# Altium footprint library Vectra_bluetooth.PcbLib: 1 footprints
Each footprint in its own frame and in the unit in brackets; x right, y up, seen from the top. Pads: shape width x height; smd on the part's side, far side on the other; paste and mask are expansions set on the pad; w line width, h text height; cw(c..) or ccw(c..) is an arc to the next point about the centre after c.
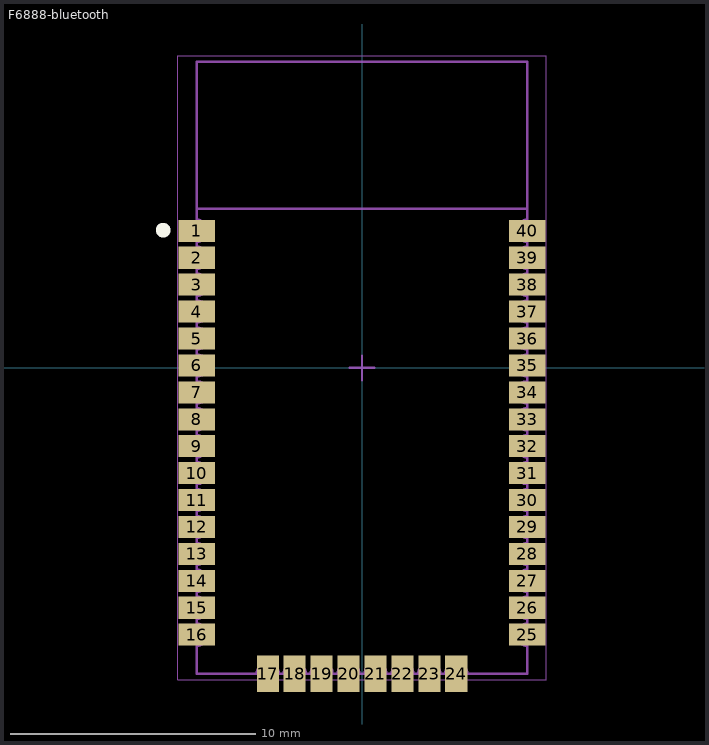
[diagram p0: the footprint, top view; thin cyan lines are the x and y axes]

## F6888-bluetooth [mm] "Chip Array, Concave, 32-Leads, Pitch 1,10mm,  Body 25,00x13,50mm,  IPC Medium Density"
height 2
pads (40):
  rect 1.5x0.9 smd: 1(-6.75,5.6) 2(-6.75,4.5) 3(-6.75,3.4) 4(-6.75,2.3) 5(-6.75,1.2) 6(-6.75,0.1) 7(-6.75,-1) 8(-6.75,-2.1) 9(-6.75,-3.2) 10(-6.75,-4.3) 11(-6.75,-5.4) 12(-6.75,-6.5) 13(-6.75,-7.6) 14(-6.75,-8.7) 15(-6.75,-9.8) 16(-6.75,-10.9) 25(6.75,-10.9) 26(6.75,-9.8) 27(6.75,-8.7) 28(6.75,-7.6) 29(6.75,-6.5) 30(6.75,-5.4) 31(6.75,-4.3) 32(6.75,-3.2) 33(6.75,-2.1) 34(6.75,-1) 35(6.75,0.1) 36(6.75,1.2) 37(6.75,2.3) 38(6.75,3.4) 39(6.75,4.5) 40(6.75,5.6)
  rect 0.9x1.5 smd: 17(-3.85,-12.5) 18(-2.75,-12.5) 19(-1.65,-12.5) 20(-0.55,-12.5) 21(0.55,-12.5) 22(1.65,-12.5) 23(2.75,-12.5) 24(3.85,-12.5)
Top Overlay:
  circle w0.5: c-8.125,5.625 r0.05
Mechanical 13:
  lines w0.1: -6.75,6.5 6.75,6.5 ; -6.75,-12.5 -4.3,-12.5 cw(c-3.85,-12.5) -3.4,-12.5 -3.2,-12.5 cw(c-2.75,-12.5) -2.3,-12.5 -2.1,-12.5 cw(c-1.65,-12.5) -1.2,-12.5 -1,-12.5 cw(c-0.55,-12.5) -0.1,-12.5 0.1,-12.5 cw(c0.55,-12.5) 1,-12.5 1.2,-12.5 cw(c1.65,-12.5) 2.1,-12.5 2.3,-12.5 cw(c2.75,-12.5) 3.2,-12.5 3.4,-12.5 cw(c3.85,-12.5) 4.3,-12.5 6.75,-12.5 6.75,-11.35 cw(c6.75,-10.9) 6.75,-10.45 6.75,-10.25 cw(c6.75,-9.8) 6.75,-9.35 6.75,-9.15 cw(c6.75,-8.7) 6.75,-8.25 6.75,-8.05 cw(c6.75,-7.6) 6.75,-7.15 6.75,-6.95 cw(c6.75,-6.5) 6.75,-6.05 6.75,-5.85 cw(c6.75,-5.4) 6.75,-4.95 6.75,-4.75 cw(c6.75,-4.3) 6.75,-3.85 6.75,-3.65 cw(c6.75,-3.2) 6.75,-2.75 6.75,-2.55 cw(c6.75,-2.1) 6.75,-1.65 6.75,-1.45 cw(c6.75,-1) 6.75,-0.55 6.75,-0.35 cw(c6.75,0.1) 6.75,0.55 6.75,0.75 cw(c6.75,1.2) 6.75,1.65 6.75,1.85 cw(c6.75,2.3) 6.75,2.75 6.75,2.95 cw(c6.75,3.4) 6.75,3.85 6.75,4.05 cw(c6.75,4.5) 6.75,4.95 6.75,5.15 cw(c6.75,5.6) 6.75,6.05 6.75,12.5 -6.75,12.5 -6.75,6.05 cw(c-6.75,5.6) -6.75,5.15 -6.75,4.95 cw(c-6.75,4.5) -6.75,4.05 -6.75,3.85 cw(c-6.75,3.4) -6.75,2.95 -6.75,2.75 cw(c-6.75,2.3) -6.75,1.85 -6.75,1.65 cw(c-6.75,1.2) -6.75,0.75 -6.75,0.55 cw(c-6.75,0.1) -6.75,-0.35 -6.75,-0.55 cw(c-6.75,-1) -6.75,-1.45 -6.75,-1.65 cw(c-6.75,-2.1) -6.75,-2.55 -6.75,-2.75 cw(c-6.75,-3.2) -6.75,-3.65 -6.75,-3.85 cw(c-6.75,-4.3) -6.75,-4.75 -6.75,-4.95 cw(c-6.75,-5.4) -6.75,-5.85 -6.75,-6.05 cw(c-6.75,-6.5) -6.75,-6.95 -6.75,-7.15 cw(c-6.75,-7.6) -6.75,-8.05 -6.75,-8.25 cw(c-6.75,-8.7) -6.75,-9.15 -6.75,-9.35 cw(c-6.75,-9.8) -6.75,-10.25 -6.75,-10.45 cw(c-6.75,-10.9) -6.75,-11.35 -6.75,-12.5
Mechanical 15:
  lines w0.05: -7.52,-12.75 7.52,-12.75 7.52,12.75 -7.52,12.75 -7.52,-12.75
  lines w0.1: -0.5,0 0.5,0 ; 0,-0.5 0,0.5
3D body: height 2, standoff 0, extent -6.75,-12.5 6.75,12.5